# Altium schematic symbol library DIOT.Schlib: 1 symbol
Pins are listed as number, name and electrical type; pins without a type are passive.

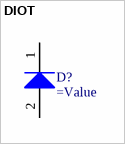
[diagram p0: symbol DIOT]

## DIOT
designator D?
=Description
pins: 1 K, 2 A